# Altium schematic symbol library LT1963A.SchLib: 1 symbol
Pins are listed as number, name and electrical type; pins without a type are passive.

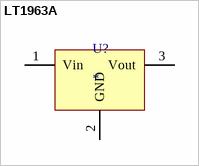
[diagram p0: symbol LT1963A]

## LT1963A
designator U?
Manufacturer: Linear Technology; Part No.: LT1963A; Vendor: Linear; Price Est.: $3.57
footprint SOT223 (TAB to Pin2) (SOT223 (TAB is connected to Pin2)); pin to pad 2>2+
pins: 1 Vin, 2 GND, 3 Vout